# EAGLE library part 347 (library display-lcd-lxd)
8 Dot-Matrix Digit, .298" (7.57) Multiplexed Display Additional Descriptors: none
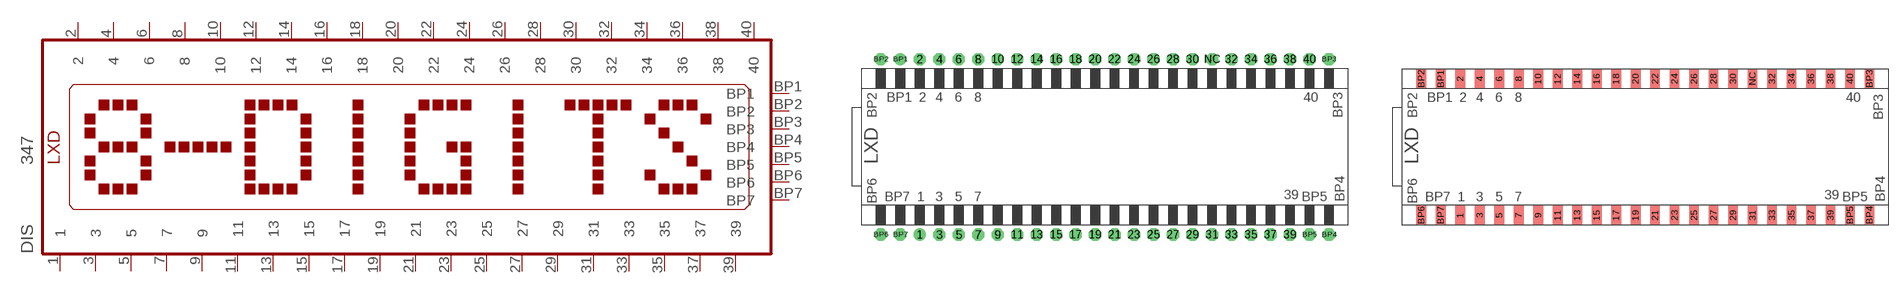
[diagram p40: symbol with the pads of 347-D; footprints 347-D, 347-E]

Designator prefix DIS

## 347DIP  [347-D]
1  1  pas
2  2  pas
3  3  pas
4  4  pas
5  5  pas
6  6  pas
7  7  pas
8  8  pas
9  9  pas
10  10  pas
11  11  pas
12  12  pas
13  13  pas
14  14  pas
15  15  pas
16  16  pas
17  17  pas
18  18  pas
19  19  pas
20  20  pas
21  21  pas
22  22  pas
23  23  pas
24  24  pas
25  25  pas
26  26  pas
27  27  pas
28  28  pas
29  29  pas
30  30  pas
31  31  pas
32  32  pas
33  33  pas
34  34  pas
35  35  pas
36  36  pas
37  37  pas
38  38  pas
39  39  pas
40  40  pas
BP1  BP1  pas
BP2  BP2  pas
BP3  BP3  pas
BP4  BP4  pas
BP5  BP5  pas
BP6  BP6  pas
BP7  BP7  pas

## 347SMD  [347-E]
Pads as for 347-D

## Footprint 347-D (pad centres in mm)
Glass Size: 2.50" x 0.80" &nbsp &nbsp &nbsp &nbsp &nbsp &nbsp &nbsp &nbsp &nbsp (63.50 x 20.32)
drill 0.813 pad 1.6 round: 1 -24.13,-11.43; BP1 -26.67,11.43
drill 0.813 pad 1.6 octagon: 2 -24.13,11.43; 3 -21.59,-11.43; 4 -21.59,11.43; 5 -19.05,-11.43; 6 -19.05,11.43; 7 -16.51,-11.43; 8 -16.51,11.43; 9 -13.97,-11.43; 10 -13.97,11.43; 11 -11.43,-11.43; 12 -11.43,11.43; 13 -8.89,-11.43; 14 -8.89,11.43; 15 -6.35,-11.43; 16 -6.35,11.43; 17 -3.81,-11.43; 18 -3.81,11.43; 19 -1.27,-11.43; 20 -1.27,11.43; 21 1.27,-11.43; 22 1.27,11.43; 23 3.81,-11.43; 24 3.81,11.43; 25 6.35,-11.43; 26 6.35,11.43; 27 8.89,-11.43; 28 8.89,11.43; 29 11.43,-11.43; 30 11.43,11.43; 31 13.97,-11.43; 32 16.51,11.43; 33 16.51,-11.43; 34 19.05,11.43; 35 19.05,-11.43; 36 21.59,11.43; 37 21.59,-11.43; 38 24.13,11.43; 39 24.13,-11.43; 40 26.67,11.43; BP2 -29.21,11.43; BP3 29.21,11.43; BP4 29.21,-11.43; BP5 26.67,-11.43; BP6 -29.21,-11.43; BP7 -26.67,-11.43; NC 13.97,11.43

## Footprint 347-E (pad centres in mm)
Glass Size: 2.50" x 0.80" &nbsp &nbsp &nbsp &nbsp &nbsp &nbsp &nbsp &nbsp &nbsp (63.50 x 20.32)
smd 1.27 x 2.54: 1 -24.13,-8.89; 2 -24.13,8.89; 3 -21.59,-8.89; 4 -21.59,8.89; 5 -19.05,-8.89; 6 -19.05,8.89; 7 -16.51,-8.89; 8 -16.51,8.89; 9 -13.97,-8.89; 10 -13.97,8.89; 11 -11.43,-8.89; 12 -11.43,8.89; 13 -8.89,-8.89; 14 -8.89,8.89; 15 -6.35,-8.89; 16 -6.35,8.89; 17 -3.81,-8.89; 18 -3.81,8.89; 19 -1.27,-8.89; 20 -1.27,8.89; 21 1.27,-8.89; 22 1.27,8.89; 23 3.81,-8.89; 24 3.81,8.89; 25 6.35,-8.89; 26 6.35,8.89; 27 8.89,-8.89; 28 8.89,8.89; 29 11.43,-8.89; 30 11.43,8.89; 31 13.97,-8.89; 32 16.51,8.89; 33 16.51,-8.89; 34 19.05,8.89; 35 19.05,-8.89; 36 21.59,8.89; 37 21.59,-8.89; 38 24.13,8.89; 39 24.13,-8.89; 40 26.67,8.89; BP1 -26.67,8.89; BP2 -29.21,8.89; BP3 29.21,8.89; BP4 29.21,-8.89; BP5 26.67,-8.89; BP6 -29.21,-8.89; BP7 -26.67,-8.89; NC 13.97,8.89